# EAGLE library part W25X20CLSNIG (library memories)
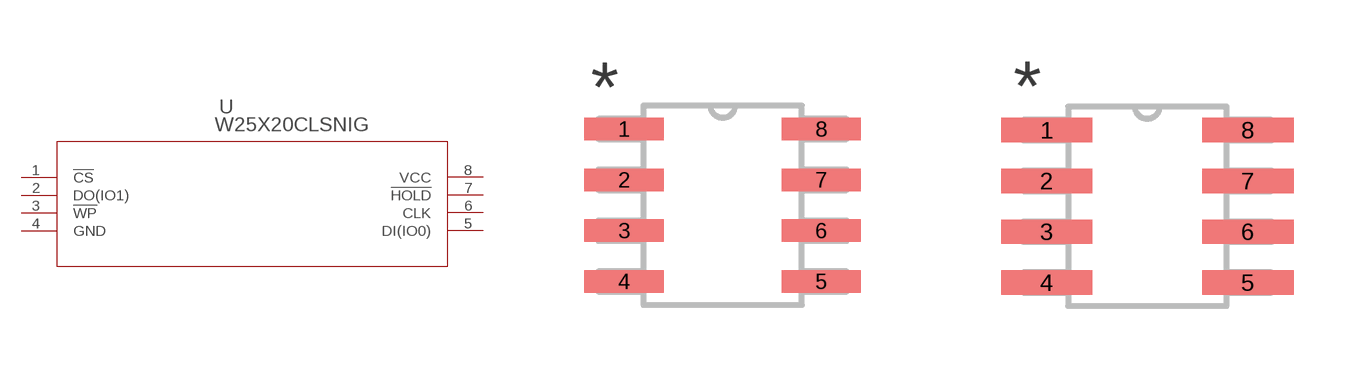
[diagram p1: symbol with the pads of WIN_SN-8; footprints WIN_SN-8, WIN_SN-8-M]

Designator prefix U

## W25X20CLSNIG (MANUFACTURER_PART_NUMBER: W25X20CLSNIG; VENDOR: Winbond)  [WIN_SN-8]
1  !CS  in
2  DO(IO1)
3  !WP  in
4  GND  pwr
5  DI(IO0)
6  CLK  in
7  !HOLD  in
8  VCC  pwr

## W25X20CLSNIGWIN_SN-8-M (MANUFACTURER_PART_NUMBER: W25X20CLSNIG; VENDOR: Winbond)  [WIN_SN-8-M]
Pads as for WIN_SN-8

## W25X20CLSNIGWIN_SN-8-L (MANUFACTURER_PART_NUMBER: W25X20CLSNIG; VENDOR: Winbond)  [WIN_SN-8-L]
Pads as for WIN_SN-8

## Footprint WIN_SN-8 (pad centres in mm)
smd 1.981 x 0.559: 1 -2.464,1.905; 2 -2.464,0.635; 3 -2.464,-0.635; 4 -2.464,-1.905; 5 2.464,-1.905; 6 2.464,-0.635; 7 2.464,0.635; 8 2.464,1.905

## Footprint WIN_SN-8-M (pad centres in mm)
smd 2.286 x 0.61: 1 -2.515,1.905; 2 -2.515,0.635; 3 -2.515,-0.635; 4 -2.515,-1.905; 5 2.515,-1.905; 6 2.515,-0.635; 7 2.515,0.635; 8 2.515,1.905

## Footprint WIN_SN-8-L (pad centres in mm)
smd 1.676 x 0.508: 1 -2.413,1.905; 2 -2.413,0.635; 3 -2.413,-0.635; 4 -2.413,-1.905; 5 2.413,-1.905; 6 2.413,-0.635; 7 2.413,0.635; 8 2.413,1.905